# Altium integrated library 68001-103HLF.IntLib: 1 symbol
Pins are listed as number, name and electrical type; pins without a type are passive.

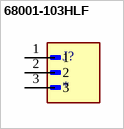
[diagram p0: symbol 68001-103HLF]

## 68001-103HLF
designator J?
Conn Rect UnshroudedHdr 3Cnts ThruHole BergStik 2.54mmPin-Spng Vert 1-Row | Amphenol FCI (Amphenol CS) 68001-103HLF; SnapEDA_Link: https://www.snapeda.com/parts/68001-103HLF/Amphenol/view-part/?ref=snap; Package: None; Value: *; MF: Amphenol; MP: 68001-103HLF; Check_prices: https://www.snapeda.com/parts/68001-103HLF/Amphenol/view-part/?ref=eda
footprint AMPHENOL_68001-103HLF
pins: 1, 2, 3